# Altium integrated library CC0603KRX5R9BB105.IntLib: 1 symbol
Pins are listed as number, name and electrical type; pins without a type are passive.

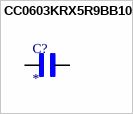
[diagram p0: symbol CC0603KRX5R9BB105]

## CC0603KRX5R9BB105
designator C?
1 ÂµF Â±10% 50V Ceramic Capacitor X5R 0603 (1608 Metric); MF: Yageo; MP: CC0603KRX5R9BB105; SnapEDA_Link: https://www.snapeda.com/parts/CC0603KRX5R9BB105/Yageo/view-part/?ref=snap; Package: 0603 Yageo; Value: *; Check_prices: https://www.snapeda.com/parts/CC0603KRX5R9BB105/Yageo/view-part/?ref=eda
footprint CAPC1608X90
pins: 1, 2